# EAGLE library part HXR100ST (library con-thomas-betts)
THOMAS&BETTS
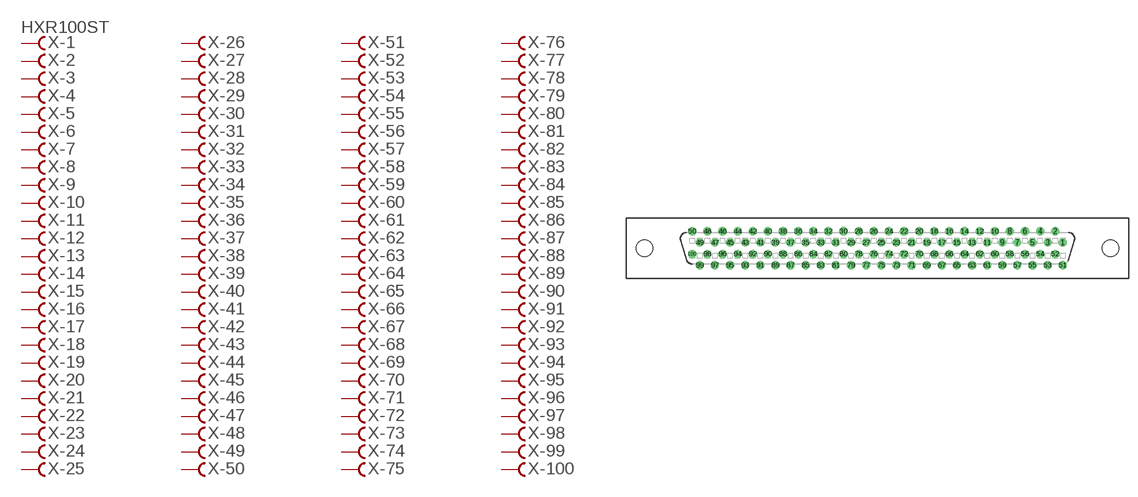
[diagram p12: symbol with the pads of HXR100ST; footprint HXR100ST]

Designator prefix X; gates -1=FV -2=F -3=F -4=F -5=F -6=F -7=F -8=F -9=F -10=F -11=F -12=F -13=F -14=F -15=F -16=F -17=F -18=F -19=F -20=F -21=F -22=F -23=F -24=F -25=F -26=F -27=F -28=F -29=F -30=F -31=F -32=F -33=F -34=F -35=F -36=F -37=F -38=F -39=F -40=F -41=F -42=F -43=F -44=F -45=F -46=F -47=F -48=F -49=F -50=F -51=F -52=F -53=F -54=F -55=F -56=F -57=F -58=F -59=F -60=F -61=F -62=F -63=F -64=F -65=F -66=F -67=F -68=F -69=F -70=F -71=F -72=F -73=F -74=F -75=F -76=F -77=F -78=F -79=F -80=F -81=F -82=F -83=F -84=F -85=F -86=F -87=F -88=F -89=F -90=F -91=F -92=F -93=F -94=F -95=F -96=F -97=F -98=F -99=F -100=F

## HXR100ST (OC_FARNELL: unknown; OC_NEWARK: unknown)  [HXR100ST]
1  -1:F  pas
2  -2:F  pas
3  -3:F  pas
4  -4:F  pas
5  -5:F  pas
6  -6:F  pas
7  -7:F  pas
8  -8:F  pas
9  -9:F  pas
10  -10:F  pas
11  -11:F  pas
12  -12:F  pas
13  -13:F  pas
14  -14:F  pas
15  -15:F  pas
16  -16:F  pas
17  -17:F  pas
18  -18:F  pas
19  -19:F  pas
20  -20:F  pas
21  -21:F  pas
22  -22:F  pas
23  -23:F  pas
24  -24:F  pas
25  -25:F  pas
26  -26:F  pas
27  -27:F  pas
28  -28:F  pas
29  -29:F  pas
30  -30:F  pas
31  -31:F  pas
32  -32:F  pas
33  -33:F  pas
34  -34:F  pas
35  -35:F  pas
36  -36:F  pas
37  -37:F  pas
38  -38:F  pas
39  -39:F  pas
40  -40:F  pas
41  -41:F  pas
42  -42:F  pas
43  -43:F  pas
44  -44:F  pas
45  -45:F  pas
46  -46:F  pas
47  -47:F  pas
48  -48:F  pas
49  -49:F  pas
50  -50:F  pas
51  -51:F  pas
52  -52:F  pas
53  -53:F  pas
54  -54:F  pas
55  -55:F  pas
56  -56:F  pas
57  -57:F  pas
58  -58:F  pas
59  -59:F  pas
60  -60:F  pas
61  -61:F  pas
62  -62:F  pas
63  -63:F  pas
64  -64:F  pas
65  -65:F  pas
66  -66:F  pas
67  -67:F  pas
68  -68:F  pas
69  -69:F  pas
70  -70:F  pas
71  -71:F  pas
72  -72:F  pas
73  -73:F  pas
74  -74:F  pas
75  -75:F  pas
76  -76:F  pas
77  -77:F  pas
78  -78:F  pas
79  -79:F  pas
80  -80:F  pas
81  -81:F  pas
82  -82:F  pas
83  -83:F  pas
84  -84:F  pas
85  -85:F  pas
86  -86:F  pas
87  -87:F  pas
88  -88:F  pas
89  -89:F  pas
90  -90:F  pas
91  -91:F  pas
92  -92:F  pas
93  -93:F  pas
94  -94:F  pas
95  -95:F  pas
96  -96:F  pas
97  -97:F  pas
98  -98:F  pas
99  -99:F  pas
100  -100:F  pas

## Footprint HXR100ST (pad centres in mm)
THOMAS&BETTS HFR100ST29xx, HFR100ST29xx
drill 0.864 octagon: 1 31.115,0.953
drill 0.864: 2 29.845,2.857; 3 28.575,0.953; 4 27.305,2.857; 5 26.035,0.953; 6 24.765,2.857; 7 23.495,0.953; 8 22.225,2.857; 9 20.955,0.953; 10 19.685,2.857; 11 18.415,0.953; 12 17.145,2.857; 13 15.875,0.953; 14 14.605,2.857; 15 13.335,0.953; 16 12.065,2.857; 17 10.795,0.953; 18 9.525,2.857; 19 8.255,0.953; 20 6.985,2.857; 21 5.715,0.953; 22 4.445,2.857; 23 3.175,0.953; 24 1.905,2.857; 25 0.635,0.953; 26 -0.635,2.857; 27 -1.905,0.953; 28 -3.175,2.857; 29 -4.445,0.953; 30 -5.715,2.857; 31 -6.985,0.953; 32 -8.255,2.857; 33 -9.525,0.953; 34 -10.795,2.857; 35 -12.065,0.953; 36 -13.335,2.857; 37 -14.605,0.953; 38 -15.875,2.857; 39 -17.145,0.953; 40 -18.415,2.857; 41 -19.685,0.953; 42 -20.955,2.857; 43 -22.225,0.953; 44 -23.495,2.857; 45 -24.765,0.953; 46 -26.035,2.857; 47 -27.305,0.953; 48 -28.575,2.857; 49 -29.845,0.953; 50 -31.115,2.857; 51 31.115,-2.857; 52 29.845,-0.953; 53 28.575,-2.857; 54 27.305,-0.953; 55 26.035,-2.857; 56 24.765,-0.953; 57 23.495,-2.857; 58 22.225,-0.953; 59 20.955,-2.857; 60 19.685,-0.953; 61 18.415,-2.857; 62 17.145,-0.953; 63 15.875,-2.857; 64 14.605,-0.953; 65 13.335,-2.857; 66 12.065,-0.953; 67 10.795,-2.857; 68 9.525,-0.953; 69 8.255,-2.857; 70 6.985,-0.953; 71 5.715,-2.857; 72 4.445,-0.953; 73 3.175,-2.857; 74 1.905,-0.953; 75 0.635,-2.857; 76 -0.635,-0.953; 77 -1.905,-2.857; 78 -3.175,-0.953; 79 -4.445,-2.857; 80 -5.715,-0.953; 81 -6.985,-2.857; 82 -8.255,-0.953; 83 -9.525,-2.857; 84 -10.795,-0.953; 85 -12.065,-2.857; 86 -13.335,-0.953; 87 -14.605,-2.857; 88 -15.875,-0.953; 89 -17.145,-2.857; 90 -18.415,-0.953; 91 -19.685,-2.857; 92 -20.955,-0.953; 93 -22.225,-2.857; 94 -23.495,-0.953; 95 -24.765,-2.857; 96 -26.035,-0.953; 97 -27.305,-2.857; 98 -28.575,-0.953; 99 -29.845,-2.857; 100 -31.115,-0.953
hole 2.769 at 39.116,0.013
hole 2.769 at -39.116,0.013